# Altium schematic symbol library HyTechSupplies.SCHLIB: 20 symbols
Pins are listed as number, name and electrical type; pins without a type are passive.

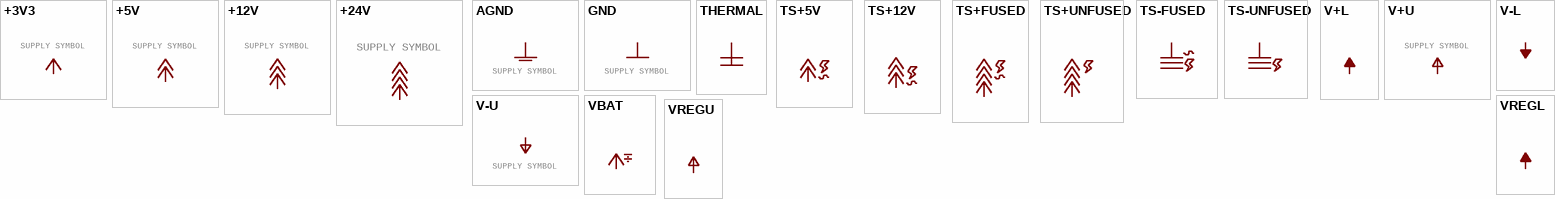
[diagram p0: symbols +3V3 to VREGU]

## +3V3
designator P?, comment SUPPLY SYMBOL
GateName_1: G$1; SymbolName_1: +3V3; LibraryName: HyTechSupplies; DeviceSetName: +3V3
pins: ?1 +3V3 (power)

## +5V
designator P?, comment SUPPLY SYMBOL
GateName_1: 1; SymbolName_1: +5V; LibraryName: HyTechSupplies; DeviceSetName: +5V
pins: ?1 +5V (power)

## +12V
designator P?, comment SUPPLY SYMBOL
GateName_1: 1; SymbolName_1: +12V; LibraryName: HyTechSupplies; DeviceSetName: +12V
pins: ?1 +12V (power)

## +24V
designator P?, comment SUPPLY SYMBOL
GateName_1: G$1; SymbolName_1: +24V; LibraryName: HyTechSupplies; DeviceSetName: +24V
pins: ?1 +24V (power)

## AGND
designator P?, comment SUPPLY SYMBOL
GateName_1: VR1; SymbolName_1: AGND; LibraryName: HyTechSupplies; DeviceSetName: AGND
pins: ?1 AGND (power)

## GND
designator P?, comment SUPPLY SYMBOL
GateName_1: 1; SymbolName_1: GND; LibraryName: HyTechSupplies; DeviceSetName: GND
pins: ?1 GND (power)

## THERMAL
designator TH?
GateName_1: G$1; SymbolName_1: THERMAL; LibraryName: HyTechSupplies; DeviceSetName: THERMAL
pins: ?1 TH (power)

## TS+5V
designator ?
GateName_1: G$1; SymbolName_1: TS+5V; LibraryName: HyTechSupplies; DeviceSetName: TS+5V
pins: ?1 TS+5V (power)

## TS+12V
designator ?
GateName_1: G$1; SymbolName_1: TS+12V; LibraryName: HyTechSupplies; DeviceSetName: TS+12V
pins: ?1 TS+12V (power)

## TS+FUSED
designator ?
GateName_1: G$1; SymbolName_1: TS+FUSED; LibraryName: HyTechSupplies; DeviceSetName: TS+FUSED
pins: ?1 TS+FUSED (power)

## TS+UNFUSED
designator P?
GateName_1: G$1; SymbolName_1: TS+UNFUSED; LibraryName: HyTechSupplies; DeviceSetName: TS+UNFUSED
pins: ?1 TS+UNFUSED (power)

## TS-FUSED
designator ?
GateName_1: G$1; SymbolName_1: TS-FUSED; LibraryName: HyTechSupplies; DeviceSetName: TS-FUSED
pins: ?1 TS-FUSED (power)

## TS-UNFUSED
designator P?
GateName_1: G$1; SymbolName_1: TS-UNFUSED; LibraryName: HyTechSupplies; DeviceSetName: TS-UNFUSED
pins: ?1 TS-UNFUSED (power)

## V+L
designator P?
GateName_1: G$1; SymbolName_1: V+L; LibraryName: HyTechSupplies; DeviceSetName: V+L
pins: ?1 V+L (power)

## V+U
designator P?, comment SUPPLY SYMBOL
GateName_1: G$1; SymbolName_1: V+U; LibraryName: HyTechSupplies; DeviceSetName: V+U
pins: ?1 V+U (power)

## V-L
designator P?
GateName_1: G$1; SymbolName_1: V-L; LibraryName: HyTechSupplies; DeviceSetName: V-L
pins: ?1 V-L (power)

## V-U
designator P?, comment SUPPLY SYMBOL
GateName_1: G$1; SymbolName_1: V-U; LibraryName: HyTechSupplies; DeviceSetName: V-U
pins: ?1 V-U (power)

## VBAT
designator P?
GateName_1: G$1; SymbolName_1: VBAT; LibraryName: HyTechSupplies; DeviceSetName: VBAT
pins: ?1 VBAT (power)

## VREGL
designator P?
GateName_1: G$1; SymbolName_1: VREGL; LibraryName: HyTechSupplies; DeviceSetName: VREGL
pins: ?1 VREGL (power)

## VREGU
designator P?
GateName_1: G$1; SymbolName_1: VREGU; LibraryName: HyTechSupplies; DeviceSetName: VREGU
pins: ?1 VREGU (power)